# EAGLE library part LMP8481MM-H/NOPB (library power_dist)
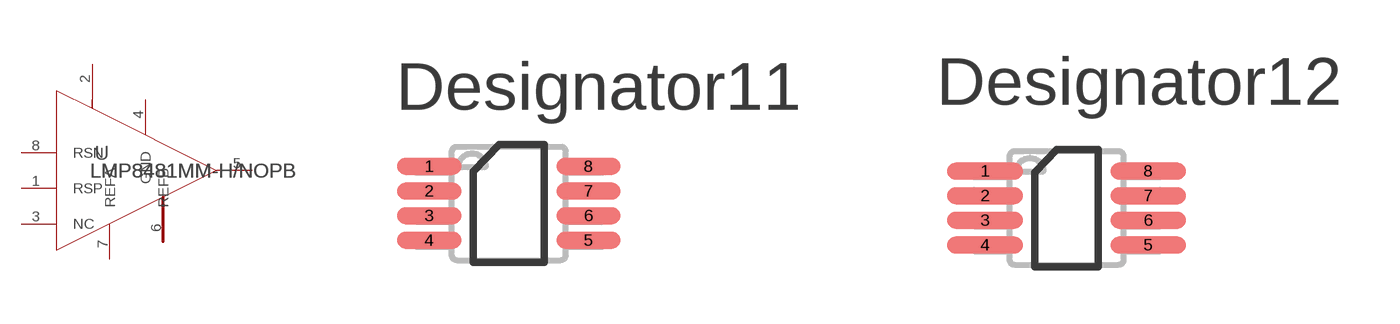
[diagram p6: symbol with the pads of DGK0008A_N; footprints DGK0008A_N, DGK0008A_M]

Designator prefix U

## LMP8481MM-H/NOPB (COMPTYPE: IC; MANUFACTURER: Texas Instruments; MOUNTTYPE: SMT; PACKAGEREFERENCE: DGK0008A; PARTNUMBER: LMP8481MM-H/NOPB; PIN_COUNT: 8; REFDES: RefDes; ROHS: Y; TYPE: TYPE; VALUE: Value)  [DGK0008A_N]
1  RSP  in
2  VCC  pwr
3  NC  pas
4  GND  pwr
5  VOUT  out
6  REFB  in
7  REFA  in
8  RSN  in

## LMP8481MM-H/NOPBDGK0008A_M (COMPTYPE: IC; MANUFACTURER: Texas Instruments; MOUNTTYPE: SMT; PACKAGEREFERENCE: DGK0008A; PARTNUMBER: LMP8481MM-H/NOPB; PIN_COUNT: 8; REFDES: RefDes; ROHS: Y; TYPE: TYPE; VALUE: Value)  [DGK0008A_M]
Pads as for DGK0008A_N

## LMP8481MM-H/NOPBDGK0008A_L (COMPTYPE: IC; MANUFACTURER: Texas Instruments; MOUNTTYPE: SMT; PACKAGEREFERENCE: DGK0008A; PARTNUMBER: LMP8481MM-H/NOPB; PIN_COUNT: 8; REFDES: RefDes; ROHS: Y; TYPE: TYPE; VALUE: Value)  [DGK0008A_L]
Pads as for DGK0008A_N

## Footprint DGK0008A_N (pad centres in mm)
smd 1.7 x 0.45: 1 -2.1,0.975; 2 -2.1,0.325; 3 -2.1,-0.325; 4 -2.1,-0.975; 5 2.1,-0.975; 6 2.1,-0.325; 7 2.1,0.325; 8 2.1,0.975

## Footprint DGK0008A_M (pad centres in mm)
smd 2 x 0.45: 1 -2.15,0.975; 2 -2.15,0.325; 3 -2.15,-0.325; 4 -2.15,-0.975; 5 2.15,-0.975; 6 2.15,-0.325; 7 2.15,0.325; 8 2.15,0.975

## Footprint DGK0008A_L (pad centres in mm)
smd 1.4 x 0.45: 1 -2.05,0.975; 2 -2.05,0.325; 3 -2.05,-0.325; 4 -2.05,-0.975; 5 2.05,-0.975; 6 2.05,-0.325; 7 2.05,0.325; 8 2.05,0.975